# Altium footprint library HF49FD.PcbLib: 1 footprints
Each footprint in its own frame and in the unit in brackets; x right, y up, seen from the top. Pads: shape width x height; smd on the part's side, far side on the other; paste and mask are expansions set on the pad; w line width, h text height; cw(c..) or ccw(c..) is an arc to the next point about the centre after c.
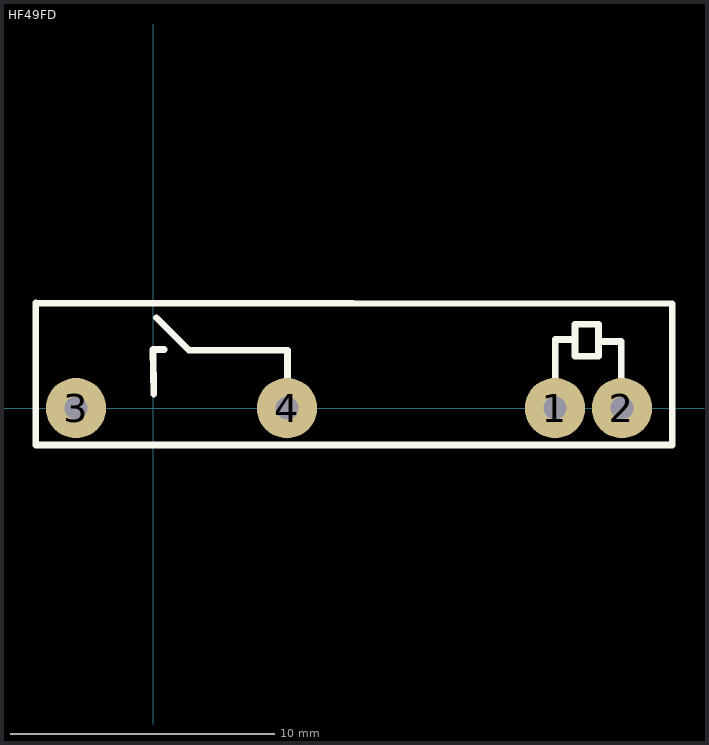
[diagram p0: the footprint, top view; thin cyan lines are the x and y axes]

## HF49FD [mil] "HF49FD"
pads (4):
  round 90 hole 34.25: 1(600,0) 2(700,0) 3(-115,0) 4(200,0)
Top Overlay:
  lines w10: 0.98,20.67 0,87.6 16.73,87.6 ; 5,135 53.39,86.61 58.39,86.61 174.21,86.61 200.79,86.61 200.79,15.75 ; 600.39,21.65 600.39,102.36 630,102.36 630,77.64 665,77.64 665,100 ; 627.36,102.36 630,105 630,125 665,125 665,100 ; 698.82,-2.95 698.82,99.41 665.59,99.41 665,100 ; -175,-55 775,-55 775,155.69 -175,156.88 -175,-55
3D body "HF49FD.SLDPRT": height 492.13, standoff -137.8, extent -112.6,-55 674.8,141.85